# EAGLE library part CON-MICROSD (library mylib)
HIROSE DM3AT-SF-PEJM5 798-DM3AT-SF-PEJM5(Mouser) http://www.mouser.jp/ProductDetail/Hirose-Connector/DM3AT-SF-PEJM5/?qs=LZSZKJVF%252b2WTDKp%252bR7IYAQ%3d%3d&_cdc=0
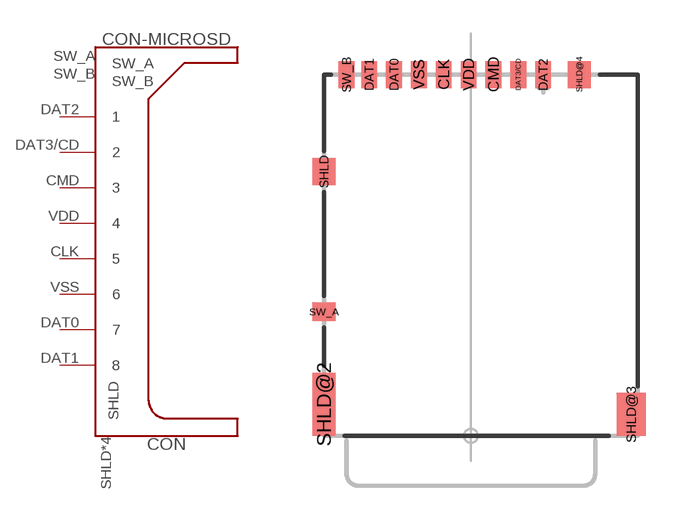
[diagram p110: symbol with the pads of CON-MICROSD-C2395; footprint CON-MICROSD-C2395]

Designator prefix CON

## CON-MICROSD-C2395 (AKIZUKI: C-02395; DIGIKEY: HR1964CT-ND; MOUSER: 798-DM3AT-SF-PEJM5)  [CON-MICROSD-C2395]
CLK  5
CMD  3
DAT0  7
DAT1  8
DAT2  1
DAT3/CD  2
SHLD  SHLD
SHLD@2  SHLD
SHLD@3  SHLD
SHLD@4  SHLD
SW_A  SW_A
SW_B  SW_B
VDD  4  pwr
VSS  6  pwr

## Footprint CON-MICROSD-C2395 (pad centres in mm)
http://akizukidenshi.com/catalog/g/gC-02395/
smd 0.7 x 1.2: CLK -1.2,16; CMD 1,16; DAT0 -3.4,16; DAT1 -4.5,16; DAT2 3.2,16; DAT3/CD 2.1,16; SW_B -5.5,16; VDD -0.1,16; VSS -2.3,16
smd 1 x 1.2: SHLD -6.5,11.7; SHLD@4 4.8,16
smd 1 x 2.8: SHLD@2 -6.5,1.4
smd 1.3 x 1.9: SHLD@3 7.1,0.95
smd 1 x 0.8: SW_A -6.5,5.5